# EAGLE library part PINHD-1X7 (library pinhead-2x23)
PIN HEADER
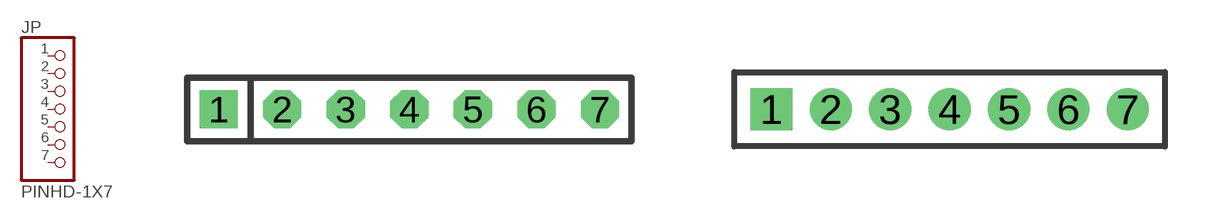
[diagram p31: symbol with the pads of 1X07; footprints 1X07, 1X07M]

Designator prefix JP

## PINHD-1X7  [1X07]
1  1  pas
2  2  pas
3  3  pas
4  4  pas
5  5  pas
6  6  pas
7  7  pas

## PINHD-1X7M  [1X07M]
Pads as for 1X07

## Footprint 1X07 (pad centres in mm)
PIN HEADER - 0.1"
drill 1.016 square: 1 -7.62,0
drill 1.016 octagon: 2 -5.08,0; 3 -2.54,0; 4 0,0; 5 2.54,0; 6 5.08,0; 7 7.62,0

## Footprint 1X07M (pad centres in mm)
PIN HEADER - 2MM"
drill 0.914 square: 1 -6,0
drill 0.914: 2 -4,0; 3 -2,0; 4 0,0; 5 2,0; 6 4,0; 7 6,0